# Altium schematic symbol library SchLib18thNov(1747785-1 8 pin connector).SchLib: 1 symbol
Pins are listed as number, name and electrical type; pins without a type are passive.

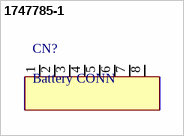
[diagram p0: symbol 1747785-1]

## 1747785-1
designator CN?, comment Battery CONN
footprint 1747785-1
pins: 1, 2, 3, 4, 5, 6, 7, 8